# Altium footprint library Header-2.54mm-2X7-M-V.PcbLib: 1 footprints
Each footprint in its own frame and in the unit in brackets; x right, y up, seen from the top. Pads: shape width x height; smd on the part's side, far side on the other; paste and mask are expansions set on the pad; w line width, h text height; cw(c..) or ccw(c..) is an arc to the next point about the centre after c.
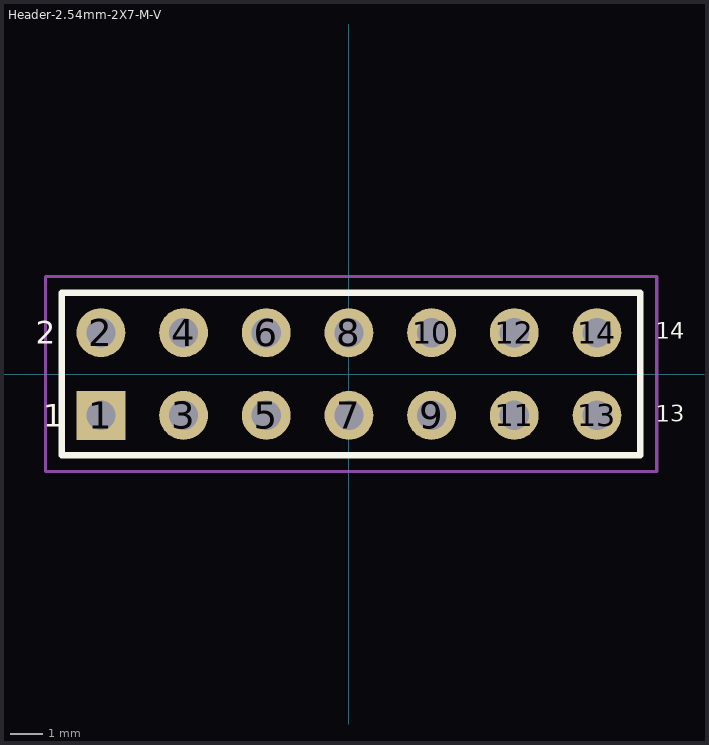
[diagram p0: the footprint, top view; thin cyan lines are the x and y axes]

## Header-2.54mm-2X7-M-V [mm]
pads (14):
  rect 1.5x1.5 hole 0.9: 1(-7.62,-1.27)
  round 1.5 hole 0.9: 2(-7.62,1.27) 3(-5.08,-1.27) 4(-5.08,1.27) 5(-2.54,-1.27) 6(-2.54,1.27) 7(0,-1.27) 8(0,1.27) 9(2.54,-1.27) 10(2.54,1.27) 11(5.08,-1.27) 12(5.08,1.27) 13(7.62,-1.27) 14(7.62,1.27)
Top Overlay:
  lines w0.2: -8.82,-2.495 8.955,-2.495 8.955,2.495 -8.82,2.495 -8.82,-2.495
  text "14" at 9.43,1.08 h0.5
  text "13" at 9.43,-1.47 h0.5
  text "1" at -9.395,-1.62 h0.7
  text "2" at -9.62,0.93 h0.7
Top Courtyard:
  lines w0.1: -9.32,-2.995 -9.32,2.995 9.455,2.995 9.455,-2.995 -8.82,-2.995 -9.32,-2.995
3D body "TSW-107-07-G-D.stp": height 8.38, standoff -2.54, extent -8.82,-2.54 8.96,2.54